# EAGLE library part CLP-108-TETRODE (library Connectors)
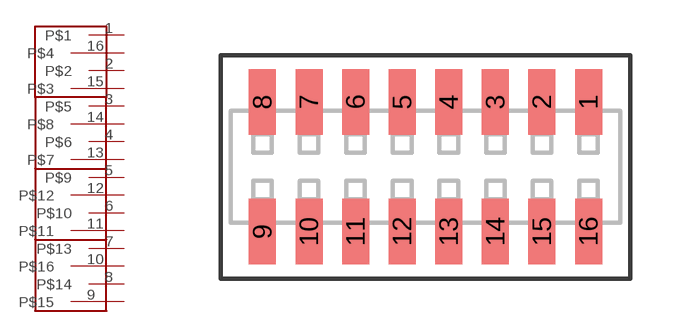
[diagram p0: symbol with the pads of CLP-108-D-XX; footprint CLP-108-D-XX]

Designator prefix -

## CLP-108-TETRODE  [CLP-108-D-XX]
1  P$1
2  P$2
3  P$5
4  P$6
5  P$9
6  P$10
7  P$13
8  P$14
9  P$15
10  P$16
11  P$11
12  P$12
13  P$7
14  P$8
15  P$3
16  P$4

## Footprint CLP-108-D-XX (pad centres in mm)
CLP SOCKET MANUFACTURER: SAMTEC SINGLE PIN FOR GENERATING LARGER PARTS.
smd 0.737 x 1.778: 1 4.445,1.765; 2 3.175,1.765; 3 1.905,1.765; 4 0.635,1.765; 5 -0.635,1.765; 6 -1.905,1.765; 7 -3.175,1.765; 8 -4.445,1.765; 9 -4.445,-1.765; 10 -3.175,-1.765; 11 -1.905,-1.765; 12 -0.635,-1.765; 13 0.635,-1.765; 14 1.905,-1.765; 15 3.175,-1.765; 16 4.445,-1.765